# EAGLE library part MAX5478 (library _RoweTel)
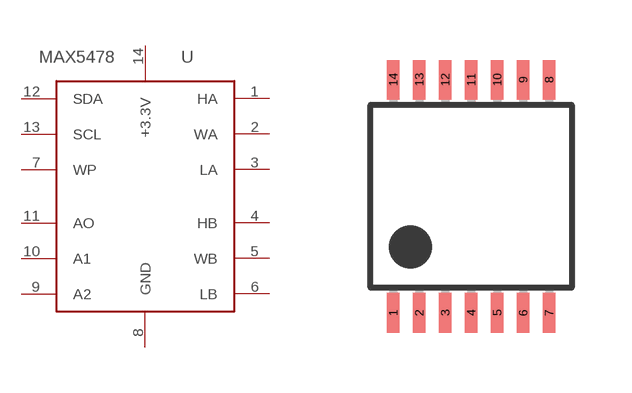
[diagram p37: symbol with the pads of TSSOP14; footprint TSSOP14]

Designator prefix U

## MAX5478  [TSSOP14]
1  HA  pas
2  WA  pas
3  LA  pas
4  HB  pas
5  WB  pas
6  LB  pas
7  WP  in
8  GND  pwr
9  A2  in
10  A1  in
11  AO  in
12  SDA
13  SCL  in
14  +3.3V  pwr

## Footprint TSSOP14 (pad centres in mm)
smd 0.305 x 0.991: 1 -1.95,-2.918; 2 -1.3,-2.918; 3 -0.65,-2.918; 4 0,-2.918; 5 0.65,-2.918; 6 1.3,-2.918; 7 1.95,-2.918; 8 1.95,2.918; 9 1.3,2.918; 10 0.65,2.918; 11 0,2.918; 12 -0.65,2.918; 13 -1.3,2.918; 14 -1.95,2.918